# Altium schematic symbol library PowerModule.SchLib: 23 symbols
Pins are listed as number, name and electrical type; pins without a type are passive.

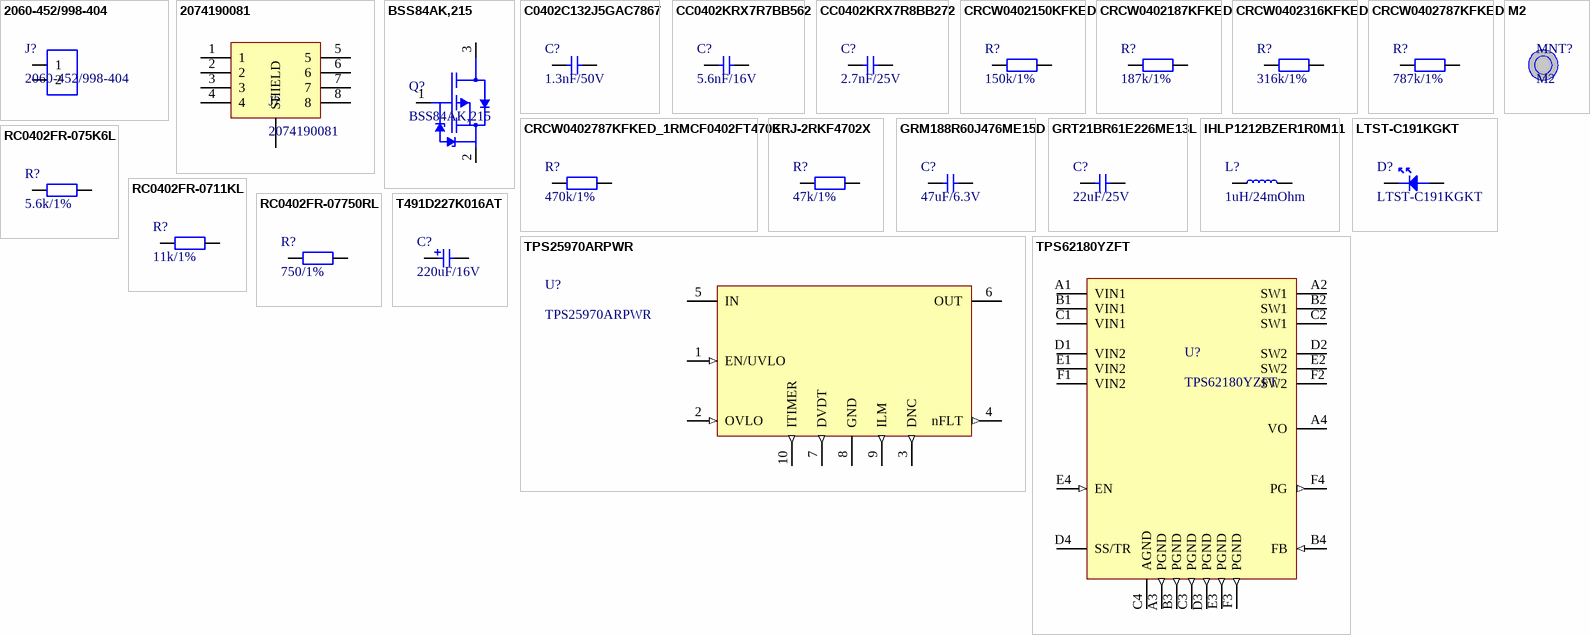
[diagram p0: symbols 2060-452/998-404 to TPS62180YZFT]

## 2060-452/998-404
designator J?
2 Position Wire to Board Terminal Block Horizontal with Board 0.157" (4.00mm) Surface Mount; ComponentLink1Description: Datasheet; ComponentLink1URL: https://www.wago.com/global/products/datasheets/Datasheet.pdf?product=2060-452/998-404&lang=en; MPN: 2060-452/998-404
footprint 2060-452/998-404 (Connector)
pins: 1, 2

## 2074190081
designator J?
8 (4 + 4 Power) Position Connector Receptacle, Center Strip Contacts Surface Mount Gold; ComponentLink1Description: Datasheet; ComponentLink1URL: https://www.molex.com/pdm_docs/sd/2074190081_sd.pdf; MPN: 2074190081
footprint 2074190081 (Connector)
pins: 1, 2, 3, 4, 5, 6, 7, 8, SHLD SHIELD

## BSS84AK,215
designator Q?
P-Channel 50 V 180mA (Ta) 350mW (Ta), 1.14W (Tc) Surface Mount TO-236AB; ComponentLink1Description: Datasheet; ComponentLink1URL: https://assets.nexperia.com/documents/data-sheet/BSS84AK.pdf; MPN: BSS84AK,215
footprint SOT95P230X110-3M (SOT23, 3-Leads, Body 2.90x2.30mm, Pitch 0.95mm, IPC Low Density)
pins: 1 G, 2 S, 3 D

## C0402C132J5GAC7867
designator C?, comment 1.3nF/50V
1300 pF ±5% 50V Ceramic Capacitor C0G, NP0 0402 (1005 Metric); MPN: C0402C132J5GAC7867; ComponentLink1Description: Datasheet; ComponentLink1URL: https://connect.kemet.com:7667/gateway/IntelliData-ComponentDocumentation/1.0/download/datasheet/C0402C132J5GAC7867
footprint CAPC1005X07M (Chip Capacitor, 2-Leads, Body 1.00x0.50mm, IPC Low Density)
pins: 1, 2

## CC0402KRX7R7BB562
designator C?, comment 5.6nF/16V
5600 pF ±10% 16V Ceramic Capacitor X7R 0402 (1005 Metric); MPN: CC0402KRX7R7BB562; ComponentLink1Description: Datasheet; ComponentLink1URL: https://www.yageo.com/upload/media/product/productsearch/datasheet/mlcc/UPY-GPHC_X7R_6.3V-to-250V_23.pdf
footprint CAPC1005X07M (Chip Capacitor, 2-Leads, Body 1.00x0.50mm, IPC Low Density)
pins: 1, 2

## CC0402KRX7R8BB272
designator C?, comment 2.7nF/25V
2700 pF ±10% 25V Ceramic Capacitor X7R 0402 (1005 Metric); MPN: CC0402KRX7R8BB272; ComponentLink1Description: Datasheet; ComponentLink1URL: https://www.yageo.com/upload/media/product/productsearch/datasheet/mlcc/UPY-GPHC_X7R_6.3V-to-250V_23.pdf
footprint CAPC1005X07M (Chip Capacitor, 2-Leads, Body 1.00x0.50mm, IPC Low Density)
pins: 1, 2

## CRCW0402150KFKED
designator R?, comment 150k/1%
150 kOhms ±1% 0.063W, 1/16W Chip Resistor 0402 (1005 Metric) Automotive AEC-Q200 Thick Film; MPN: CRCW0402150KFKED; ComponentLink1Description: Datasheet; ComponentLink1URL: https://www.vishay.com/docs/20035/dcrcwe3.pdf
footprint RESC1005X04M (Chip Resistor, 2-Leads, Body 1.00x0.50mm, IPC Low Density)
pins: 1, 2

## CRCW0402187KFKED
designator R?, comment 187k/1%
187 kOhms ±1% 0.063W, 1/16W Chip Resistor 0402 (1005 Metric) Automotive AEC-Q200 Thick Film; MPN: CRCW0402187KFKED; ComponentLink1Description: Datasheet; ComponentLink1URL: https://www.vishay.com/docs/20035/dcrcwe3.pdf
footprint RESC1005X04M (Chip Resistor, 2-Leads, Body 1.00x0.50mm, IPC Low Density)
pins: 1, 2

## CRCW0402316KFKED
designator R?, comment 316k/1%
316 kOhms ±1% 0.063W, 1/16W Chip Resistor 0402 (1005 Metric) Automotive AEC-Q200 Thick Film; MPN: CRCW0402316KFKED; ComponentLink1Description: Datasheet; ComponentLink1URL: https://www.vishay.com/docs/20035/dcrcwe3.pdf
footprint RESC1005X04M (Chip Resistor, 2-Leads, Body 1.00x0.50mm, IPC Low Density)
pins: 1, 2

## CRCW0402787KFKED
designator R?, comment 787k/1%
787 kOhms ±1% 0.063W, 1/16W Chip Resistor 0402 (1005 Metric) Automotive AEC-Q200 Thick Film; MPN: CRCW0402787KFKED; ComponentLink1Description: Datasheet; ComponentLink1URL: https://www.vishay.com/docs/20035/dcrcwe3.pdf
footprint RESC1005X04M (Chip Resistor, 2-Leads, Body 1.00x0.50mm, IPC Low Density)
pins: 1, 2

## CRCW0402787KFKED_1RMCF0402FT470K
designator R?, comment 470k/1%
470 kOhms ±1% 0.063W, 1/16W Chip Resistor 0402 (1005 Metric) Automotive AEC-Q200 Thick Film; MPN: RMCF0402FT470K; ComponentLink1Description: Datasheet; ComponentLink1URL: https://www.seielect.com/Catalog/SEI-RMCF_RMCP.pdf
footprint RESC1005X04M (Chip Resistor, 2-Leads, Body 1.00x0.50mm, IPC Low Density)
pins: 1, 2

## ERJ-2RKF4702X
designator R?, comment 47k/1%
47 kOhms ±1% 0.1W, 1/10W Chip Resistor 0402 (1005 Metric) Automotive AEC-Q200 Thick Film; MPN: ERJ-2RKF4702X; ComponentLink1Description: Datasheet; ComponentLink1URL: https://industrial.panasonic.com/cdbs/www-data/pdf/RDA0000/AOA0000C304.pdf
footprint RESC1005X04M (Chip Resistor, 2-Leads, Body 1.00x0.50mm, IPC Low Density)
pins: 1, 2

## GRM188R60J476ME15D
designator C?, comment 47uF/6.3V
47 µF ±20% 6.3V Ceramic Capacitor X5R 0603 (1608 Metric); MPN: GRM188R60J476ME15D; ComponentLink1Description: Datasheet; ComponentLink1URL: https://search.murata.co.jp/Ceramy/image/img/A01X/G101/ENG/GRM188R60J476ME15-01.pdf
footprint CAPC2012X14M (Chip Capacitor, 2-Leads, Body 2.00x1.25mm, IPC Low Density)
pins: 1, 2

## GRT21BR61E226ME13L
designator C?, comment 22uF/25V
22 µF ±20% 25V Ceramic Capacitor X5R 0805 (2012 Metric); MPN: GRT21BR61E226ME13L; ComponentLink1Description: Datasheet; ComponentLink1URL: https://search.murata.co.jp/Ceramy/image/img/A01X/G101/ENG/GRT21BR61E226ME13-01.pdf
footprint CAPC2012X14M (Chip Capacitor, 2-Leads, Body 2.00x1.25mm, IPC Low Density)
pins: 1, 2

## IHLP1212BZER1R0M11
designator L?, comment 1uH/24mOhm
1 µH Shielded Molded Inductor 5 A 24mOhm Max Nonstandard; MPN: IHLP1212BZER1R0M11; ComponentLink1Description: Datasheet; ComponentLink1URL: https://www.vishay.com/docs/34289/lp12bz11.pdf
footprint INDP3030X20M (Precision Wire Wound Inductor, 2-Leads, Body 3.00x3.00mm, IPC Low Density)
pins: 1, 2

## LTST-C191KGKT
designator D?
Green 571nm LED Indication - Discrete 2V 0603 (1608 Metric); ComponentLink1Description: Datasheet; ComponentLink1URL: https://optoelectronics.liteon.com/upload/download/DS22-2000-228/LTST-C191KGKT.PDF; MPN: LTST-C191KGKT
footprint LED-0603 (0603)
pins: 1, 2

## M2
designator MNT?  (mechanical)
ComponentLink1Description: Datasheet; ComponentLink1URL: *; MPN: *
footprint HOLE_M2

## RC0402FR-075K6L
designator R?, comment 5.6k/1%
5.6 kOhms ±1% 0.063W, 1/16W Chip Resistor 0402 (1005 Metric) Moisture Resistant Thick Film; MPN: RC0402FR-075K6L; ComponentLink1Description: Datasheet; ComponentLink1URL: https://www.yageo.com/upload/media/product/productsearch/datasheet/rchip/PYu-RC_Group_51_RoHS_L_12.pdf
footprint RESC1005X04M (Chip Resistor, 2-Leads, Body 1.00x0.50mm, IPC Low Density)
pins: 1, 2

## RC0402FR-0711KL
designator R?, comment 11k/1%
11 kOhms ±1% 0.063W, 1/16W Chip Resistor 0402 (1005 Metric) Moisture Resistant Thick Film; MPN: RC0402FR-0711KL; ComponentLink1Description: Datasheet; ComponentLink1URL: https://www.yageo.com/upload/media/product/productsearch/datasheet/rchip/PYu-RC_Group_51_RoHS_L_12.pdf
footprint RESC1005X04M (Chip Resistor, 2-Leads, Body 1.00x0.50mm, IPC Low Density)
pins: 1, 2

## RC0402FR-07750RL
designator R?, comment 750/1%
750 Ohms ±1% 0.063W, 1/16W Chip Resistor 0402 (1005 Metric) Moisture Resistant Thick Film; MPN: RC0402FR-07750RL; ComponentLink1Description: Datasheet; ComponentLink1URL: https://www.yageo.com/upload/media/product/productsearch/datasheet/rchip/PYu-RC_Group_51_RoHS_L_12.pdf
footprint RESC1005X04M (Chip Resistor, 2-Leads, Body 1.00x0.50mm, IPC Low Density)
pins: 1, 2

## T491D227K016AT
designator C?, comment 220uF/16V
220 µF Molded Tantalum Capacitors 16 V 2917 (7343 Metric) 500mOhm; MPN: T491D227K016AT; ComponentLink1Description: Datasheet; ComponentLink1URL: https://connect.kemet.com:7667/gateway/IntelliData-ComponentDocumentation/1.0/download/datasheet/T491D227K016AT
footprint TANTAL/2917 (SODFL, 2-Leads, Body 4.30x7.60mm, IPC Medium Density)
pins: 1, 2

## TPS25970ARPWR
designator U?
2.7-V TO 23-V, 10-MOHM, 7-A EFUS; ComponentLink1Description: Datasheet; ComponentLink1URL: https://www.ti.com/lit/ds/symlink/tps2597.pdf?ts=1689264287849&ref_url=https%253A%252F%252Fwww.google.com%252F; MPN: TPS25970ARPWR
footprint QFN45P200X200X100-16L (QFN, 16-Leads, Body 2.00x2.00mm, Pitch 0.45mm, IPC High Density)
pins: 1 EN/UVLO (in), 2 OVLO (in), 3 DNC (out), 4 nFLT (out), 5 IN (power), 6 OUT (power), 7 DVDT (out), 8 GND (power), 9 ILM (out), 10 ITIMER (out)

## TPS62180YZFT
designator U?
Buck Switching Regulator IC Positive Adjustable 0.9V 1 Output 6A 24-UFBGA, DSBGA; ComponentLink1Description: Datasheet; ComponentLink1URL: https://www.ti.com/general/docs/suppproductinfo.tsp?distId=10&gotoUrl=https%3A%2F%2Fwww.ti.com%2Flit%2Fgpn%2Ftps62180; MPN: TPS62180YZFT
footprint BGA24C50P4X6_210X310X62 (BGA, 24-Leads, Body 2.10x3.10mmx0.63mm, Pitch 0.50mm)
pins: A1 VIN1, A2 SW1 (power), A3 PGND (out), A4 VO, B1 VIN1, B2 SW1, B3 PGND (out), B4 FB (in), C1 VIN1, C2 SW1, C3 PGND (out), C4 AGND (power), D1 VIN2, D2 SW2, D3 PGND (out), D4 SS/TR, E1 VIN2, E2 SW2, E3 PGND (out), E4 EN (in), F1 VIN2, F2 SW2, F3 PGND (out), F4 PG (out)